# Altium footprint library 2X3HDR_SMD.PcbLib: 1 footprints
Each footprint in its own frame and in the unit in brackets; x right, y up, seen from the top. Pads: shape width x height; smd on the part's side, far side on the other; paste and mask are expansions set on the pad; w line width, h text height; cw(c..) or ccw(c..) is an arc to the next point about the centre after c.
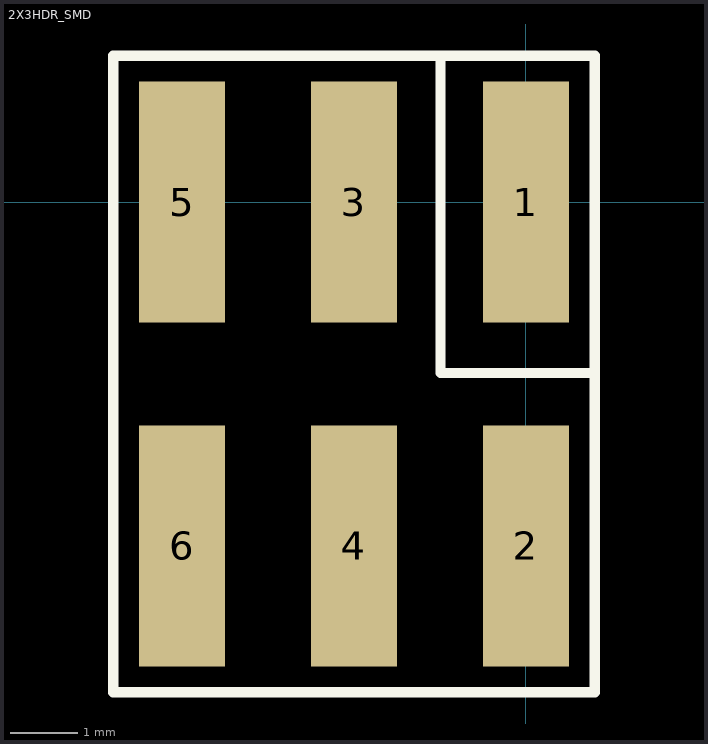
[diagram p0: the footprint, top view; thin cyan lines are the x and y axes]

## 2X3HDR_SMD [mil]
height 401.57
pads (6):
  rect 50x140 smd: 1(0,0) 2(0,-200) 3(-100,0) 4(-100,-200) 5(-200,0) 6(-200,-200)
Top Overlay:
  lines w5.91: -49.76,85 -49.76,-99.42 40,-99.42 ; -240,-285 40,-285 40,85 -240,85 -240,-285
3D body: height 485.83, standoff -7.09, extent -247.79,-245.67 49.56,45.67